# EAGLE library part MSP430F5529 (library TI)
Texas Instruments MicroController- Msp430f5529; Digikey Part Number: 296-27306-1-ND
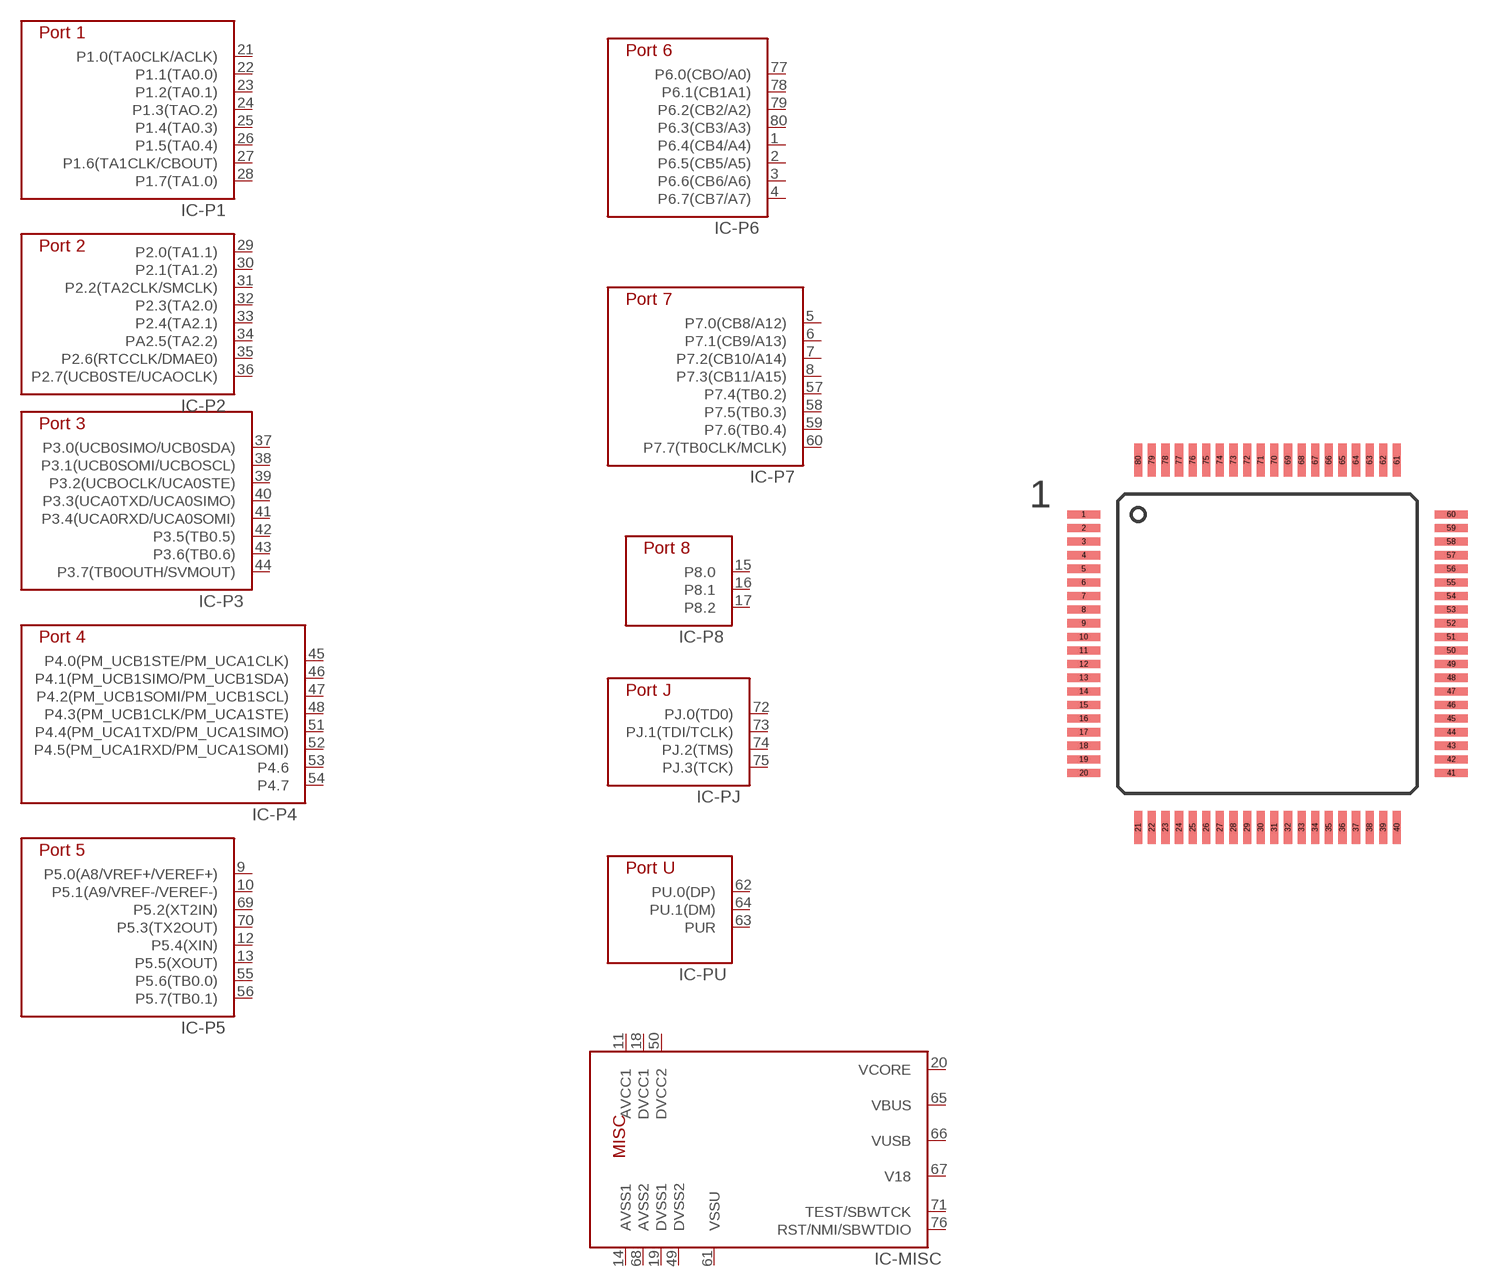
[diagram p32: symbol with the pads of PQFP-80; footprint PQFP-80]

Designator prefix IC; gates -P1=MSP430F5529-P1 -P2=MSP430F5529-P2 -P3=MSP430F5529-P3 -P4=MSP430F5529-P4 -P5=MSP430F5529-P5 -P6=MSP430F5529-P6 -P7=MSP430F5529-P7 -P8=MSP430F5529-P8 -PJ=MSP430F5529-PJ -PU=MSP430F5529-PU -MISC=MSP430F5529-MISC

## MSP430F5529  [PQFP-80]
1  -P6:P6.4(CB4/A4)
2  -P6:P6.5(CB5/A5)
3  -P6:P6.6(CB6/A6)
4  -P6:P6.7(CB7/A7)
5  -P7:P7.0(CB8/A12)
6  -P7:P7.1(CB9/A13)
7  -P7:P7.2(CB10/A14)
8  -P7:P7.3(CB11/A15)
9  -P5:P5.0(A8/VREF+/VEREF+)
10  -P5:P5.1(A9/VREF-/VEREF-)
11  -MISC:AVCC1  pwr
12  -P5:P5.4(XIN)
13  -P5:P5.5(XOUT)
14  -MISC:AVSS1  pwr
15  -P8:P8.0
16  -P8:P8.1
17  -P8:P8.2
18  -MISC:DVCC1  pwr
19  -MISC:DVSS1  pwr
20  -MISC:VCORE  pwr
21  -P1:P1.0(TA0CLK/ACLK)
22  -P1:P1.1(TA0.0)
23  -P1:P1.2(TA0.1)
24  -P1:P1.3(TAO.2)
25  -P1:P1.4(TA0.3)
26  -P1:P1.5(TA0.4)
27  -P1:P1.6(TA1CLK/CBOUT)
28  -P1:P1.7(TA1.0)
29  -P2:P2.0(TA1.1)
30  -P2:P2.1(TA1.2)
31  -P2:P2.2(TA2CLK/SMCLK)
32  -P2:P2.3(TA2.0)
33  -P2:P2.4(TA2.1)
34  -P2:PA2.5(TA2.2)
35  -P2:P2.6(RTCCLK/DMAE0)
36  -P2:P2.7(UCB0STE/UCAOCLK)
37  -P3:P3.0(UCB0SIMO/UCB0SDA)
38  -P3:P3.1(UCB0SOMI/UCBOSCL)
39  -P3:P3.2(UCBOCLK/UCA0STE)
40  -P3:P3.3(UCA0TXD/UCA0SIMO)
41  -P3:P3.4(UCA0RXD/UCA0SOMI)
42  -P3:P3.5(TB0.5)
43  -P3:P3.6(TB0.6)
44  -P3:P3.7(TB0OUTH/SVMOUT)
45  -P4:P4.0(PM_UCB1STE/PM_UCA1CLK)
46  -P4:P4.1(PM_UCB1SIMO/PM_UCB1SDA)
47  -P4:P4.2(PM_UCB1SOMI/PM_UCB1SCL)
48  -P4:P4.3(PM_UCB1CLK/PM_UCA1STE)
49  -MISC:DVSS2  pwr
50  -MISC:DVCC2  pwr
51  -P4:P4.4(PM_UCA1TXD/PM_UCA1SIMO)
52  -P4:P4.5(PM_UCA1RXD/PM_UCA1SOMI)
53  -P4:P4.6
54  -P4:P4.7
55  -P5:P5.6(TB0.0)
56  -P5:P5.7(TB0.1)
57  -P7:P7.4(TB0.2)
58  -P7:P7.5(TB0.3)
59  -P7:P7.6(TB0.4)
60  -P7:P7.7(TB0CLK/MCLK)
61  -MISC:VSSU  pwr
62  -PU:PU.0(DP)
63  -PU:PUR
64  -PU:PU.1(DM)
65  -MISC:VBUS  pwr
66  -MISC:VUSB  pwr
67  -MISC:V18  pwr
68  -MISC:AVSS2  pwr
69  -P5:P5.2(XT2IN)
70  -P5:P5.3(TX2OUT)
71  -MISC:TEST/SBWTCK
72  -PJ:PJ.0(TD0)
73  -PJ:PJ.1(TDI/TCLK)
74  -PJ:PJ.2(TMS)
75  -PJ:PJ.3(TCK)
76  -MISC:RST/NMI/SBWTDIO
77  -P6:P6.0(CBO/A0)
78  -P6:P6.1(CB1A1)
79  -P6:P6.2(CB2/A2)
80  -P6:P6.3(CB3/A3)

## Footprint PQFP-80 (pad centres in mm)
smd 1.2 x 0.3: 1 -6.75,4.75; 2 -6.75,4.25; 3 -6.75,3.75; 4 -6.75,3.25; 5 -6.75,2.75; 6 -6.75,2.25; 7 -6.75,1.75; 8 -6.75,1.25; 9 -6.75,0.75; 10 -6.75,0.25; 11 -6.75,-0.25; 12 -6.75,-0.75; 13 -6.75,-1.25; 14 -6.75,-1.75; 15 -6.75,-2.25; 16 -6.75,-2.75; 17 -6.75,-3.25; 18 -6.75,-3.75; 19 -6.75,-4.25; 20 -6.75,-4.75; 41 6.75,-4.75; 42 6.75,-4.25; 43 6.75,-3.75; 44 6.75,-3.25; 45 6.75,-2.75; 46 6.75,-2.25; 47 6.75,-1.75; 48 6.75,-1.25; 49 6.75,-0.75; 50 6.75,-0.25; 51 6.75,0.25; 52 6.75,0.75; 53 6.75,1.25; 54 6.75,1.75; 55 6.75,2.25; 56 6.75,2.75; 57 6.75,3.25; 58 6.75,3.75; 59 6.75,4.25; 60 6.75,4.75
smd 0.3 x 1.2: 21 -4.75,-6.75; 22 -4.25,-6.75; 23 -3.75,-6.75; 24 -3.25,-6.75; 25 -2.75,-6.75; 26 -2.25,-6.75; 27 -1.75,-6.75; 28 -1.25,-6.75; 29 -0.75,-6.75; 30 -0.25,-6.75; 31 0.25,-6.75; 32 0.75,-6.75; 33 1.25,-6.75; 34 1.75,-6.75; 35 2.25,-6.75; 36 2.75,-6.75; 37 3.25,-6.75; 38 3.75,-6.75; 39 4.25,-6.75; 40 4.75,-6.75; 61 4.75,6.75; 62 4.25,6.75; 63 3.75,6.75; 64 3.25,6.75; 65 2.75,6.75; 66 2.25,6.75; 67 1.75,6.75; 68 1.25,6.75; 69 0.75,6.75; 70 0.25,6.75; 71 -0.25,6.75; 72 -0.75,6.75; 73 -1.25,6.75; 74 -1.75,6.75; 75 -2.25,6.75; 76 -2.75,6.75; 77 -3.25,6.75; 78 -3.75,6.75; 79 -4.25,6.75; 80 -4.75,6.75